# Altium footprint library OSC_SMD_AP3S2.PcbLib: 1 footprints
Each footprint in its own frame and in the unit in brackets; x right, y up, seen from the top. Pads: shape width x height; smd on the part's side, far side on the other; paste and mask are expansions set on the pad; w line width, h text height; cw(c..) or ccw(c..) is an arc to the next point about the centre after c.
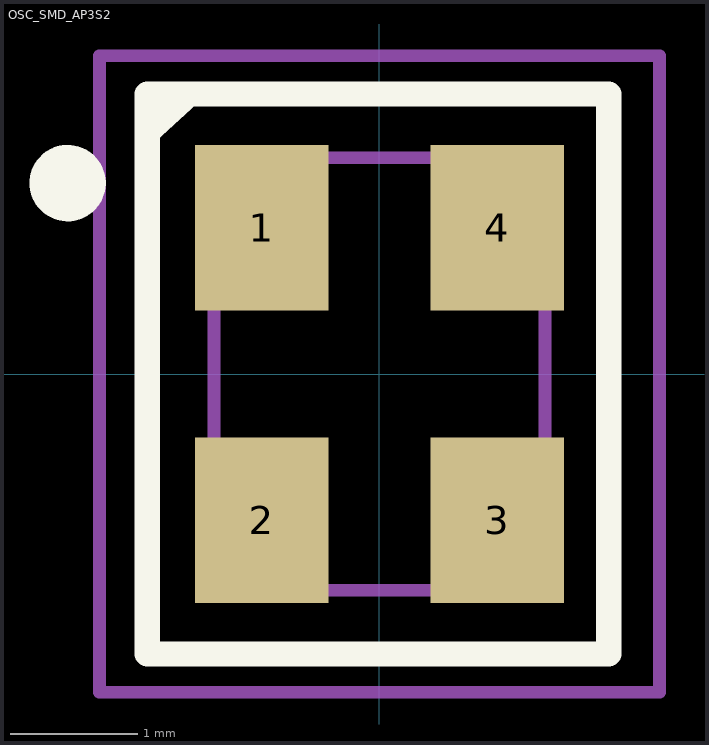
[diagram p0: the footprint, top view; thin cyan lines are the x and y axes]

## OSC_SMD_AP3S2 [mm]
pads (4):
  rect 1.05x1.3 smd: 1(-0.925,1.15) 2(-0.925,-1.15) 3(0.925,-1.15) 4(0.925,1.15)
Top Overlay:
  circle w0.3: c-2.45,1.5 r0.15
  lines w0.2: -1.825,1.9 -1.5,2.2 ; -1.825,-2.2 -1.825,2.2 1.8,2.2 1.8,-2.2 -1.825,-2.2
Mechanical 13:
  lines w0.1: -1.3,-1.7 1.3,-1.7 1.3,1.7 -1.3,1.7 -1.3,-1.7
Mechanical 15:
  lines w0.1: -2.2,-2.5 2.2,-2.5 2.2,2.5 -2.2,2.5 -2.2,-2.5
3D body: height 1.21, standoff 0, extent -1.25,-1.6 1.25,1.6